# EAGLE library part MCZ33996EK (library MCZ33996EK)
Power Switch Lo Side 0.9A Automotive 32-Pin SOIC W EP Tube Check prices <https://pricing.snapeda.com/parts/MCZ33996EK/NXP%20USA/view-part?ref=eda>
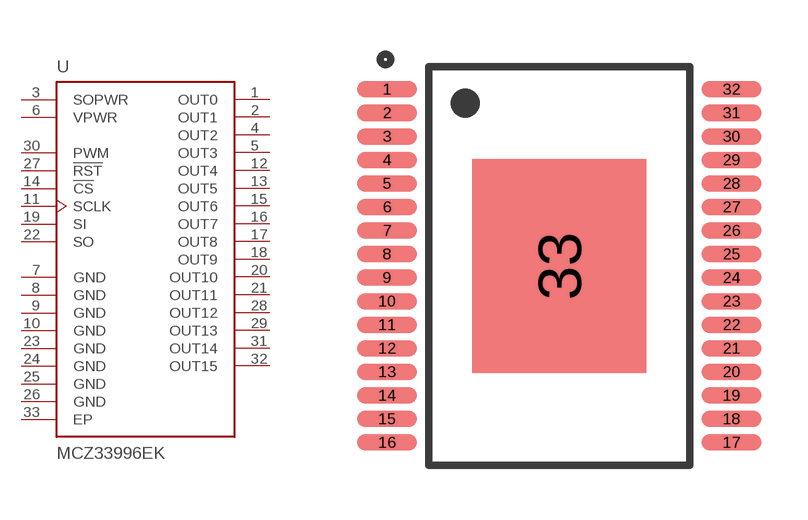
[diagram p0: symbol with the pads of SOP65P1030X265-33N; footprint SOP65P1030X265-33N]

Designator prefix U

## MCZ33996EK (Availability: In Stock; Description: Power Switch/Driver 1:16 N-Channel 900mA 32-SOIC-EP; MF: NXP USA; MP: MCZ33996EK; Package: SOIC-32 NXP Semiconductors; Price: None)  [SOP65P1030X265-33N]
1  OUT0  out
2  OUT1  out
3  SOPWR  pwr
4  OUT2  out
5  OUT3  out
6  VPWR  pwr
7  GND  pwr
8  GND  pwr
9  GND  pwr
10  GND  pwr
11  SCLK  in
12  OUT4  out
13  OUT5  out
14  !CS  in
15  OUT6  out
16  OUT7  out
17  OUT8  out
18  OUT9  out
19  SI  in
20  OUT10  out
21  OUT11  out
22  SO  out
23  GND  pwr
24  GND  pwr
25  GND  pwr
26  GND  pwr
27  !RST  in
28  OUT12  out
29  OUT13  out
30  PWM  in
31  OUT14  out
32  OUT15  out
33  EP  pwr

## Footprint SOP65P1030X265-33N (pad centres in mm)
smd 1.65 x 0.45: 1 -4.75,4.875; 2 -4.75,4.225; 3 -4.75,3.575; 4 -4.75,2.925; 5 -4.75,2.275; 6 -4.75,1.625; 7 -4.75,0.975; 8 -4.75,0.325; 9 -4.75,-0.325; 10 -4.75,-0.975; 11 -4.75,-1.625; 12 -4.75,-2.275; 13 -4.75,-2.925; 14 -4.75,-3.575; 15 -4.75,-4.225; 16 -4.75,-4.875; 17 4.75,-4.875; 18 4.75,-4.225; 19 4.75,-3.575; 20 4.75,-2.925; 21 4.75,-2.275; 22 4.75,-1.625; 23 4.75,-0.975; 24 4.75,-0.325; 25 4.75,0.325; 26 4.75,0.975; 27 4.75,1.625; 28 4.75,2.275; 29 4.75,2.925; 30 4.75,3.575; 31 4.75,4.225; 32 4.75,4.875
smd 4.8 x 5.9: 33 0,0